# Altium schematic symbol library MF_MiscLib.schlib: 178 symbols (part 3 of 3)
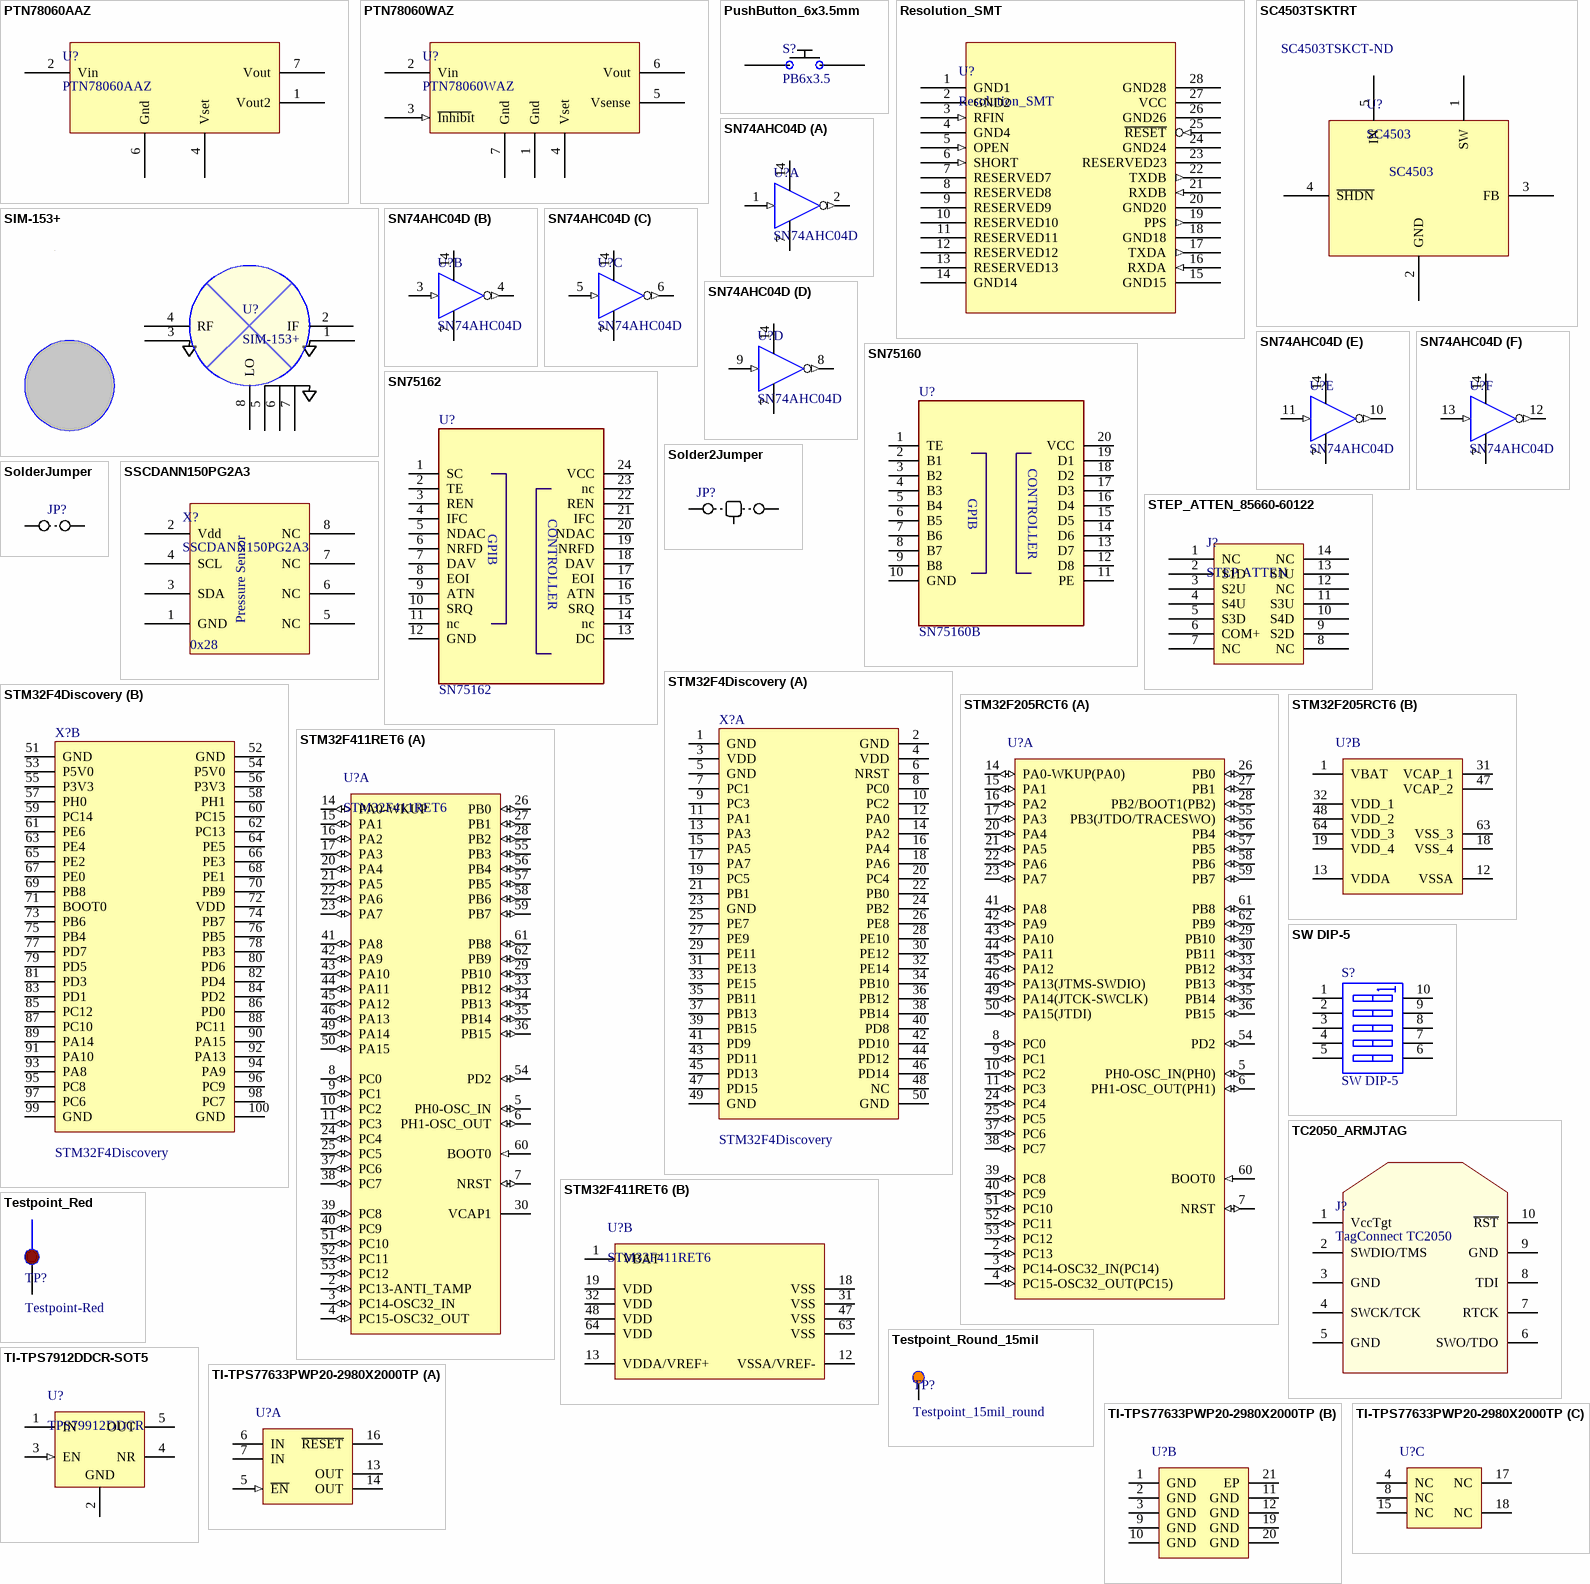
[diagram p11: symbols PTN78060AAZ to TI-TPS77633PWP20-2980X2000TP]

## SN74AHC04D
designator U?
Hex Inverter; Manufacturer: Texas Instruments; TPN: 156-5155-01; ComponentLink2Description: Datasheet; ComponentLink2URL: http://www-s.ti.com/sc/ds/sn74ahc04.pdf; ManufacturerPN: SN74AHC04D; Supplier 1: Digi-Key; Supplier Part Number 1: 296-4516-5-ND; Supplier 2: Newark; Supplier Part Number 2: 26M3213
3D model D014 (14-Pin Small Outline Integrated Circuit 1.27 mm Pitch)
signal-integrity model SN74AHC04D
footprint D014_L (SOIC, 14-Leads, Body 8.7x3.9mm, Pitch 1.27mm, IPC High Density)
footprint D014_M (SOIC, 14-Leads, Body 8.7x3.9mm, Pitch 1.27mm, IPC Low Density)
footprint D014_N (SOIC, 14-Leads, Body 8.7x3.9mm, Pitch 1.27mm, IPC Medium Density)
pins on every part: 7 GND (power), 14 VCC (power)
part A pins: 1 A (in), 2 Y (out)
part B pins: 3 A (in), 4 Y (out)
part C pins: 5 A (in), 6 Y (out)
part D pins: 8 Y (out), 9 A (in)
part E pins: 10 Y (out), 11 A (in)
part F pins: 12 Y (out), 13 A (in)

## SN75160
designator U?, comment SN75160B
Part Field 1: Octal Bus Transceiver; Part Field 2: TI  SN75160B-DW; Part Field 3: 296-6844-5
footprint SO20W
pins: 1 TE, 2 B1, 3 B2, 4 B3, 5 B4, 6 B5, 7 B6, 8 B7, 9 B8, 10 GND, 11 PE, 12 D8, 13 D7, 14 D6, 15 D5, 16 D4, 17 D3, 18 D2, 19 D1, 20 VCC
text: CONTROLLER; GPIB

## SN75162
designator U?
Part Field 1: Octal Bus Transceiver; Part Field 2: TI 75162B-DW; Part Field 3: 296-6848-5
footprint SO24W
pins: 1 SC, 2 TE, 3 REN, 4 IFC, 5 NDAC, 6 NRFD, 7 DAV, 8 EOI, 9 ATN, 10 SRQ, 11 nc, 12 GND, 13 DC, 14 nc, 15 SRQ, 16 ATN, 17 EOI, 18 DAV, 19 NRFD, 20 NDAC, 21 IFC, 22 REN, 23 nc, 24 VCC
text: CONTROLLER; GPIB

## Solder2Jumper
designator JP?, comment Solder Jumper  (value not drawn)  (no BOM)
Solder jumper 0402 size
footprint Solder2Jumper (Solder Jumper)
pins: 1 "pin1", 2 "pin2", 3

## SolderJumper
designator JP?, comment Solder Jumper  (value not drawn)  (no BOM)
Solder jumper 0402 size
footprint SolderJumper1 (Solder Jumper)
pins: 1 "pin1", 2 "pin2"

## SSCDANN150PG2A3
designator X?
SENSOR PRES 150PSI GAUG 3.3V DIP I2C; Manufacturer: Honeywell; ComponentLink1Description: Datasheet; ComponentLink1URL: http://sensing.honeywell.com/index.php?ci_id=151134; Supplier 1: Digi-Key; Supplier 2: Allied; Supplier Part Number 1: 480-5413-ND; Supplier Part Number 2: 70280311; ManufacturerPN: SSCDANN150PG2A3
footprint HoneywellPsenseDIP (Honeywell Pressure Sensor DIP AN package)
pins: 1 GND, 2 Vdd, 3 SDA, 4 SCL, 5 NC, 6 NC, 7 NC, 8 NC
text: Pressure Sensor; 0x28

## STEP_ATTEN_85660-60122
designator J?, comment STEP ATTEN  (no BOM)
footprint IC_Socket_2x7 (Header 2mm 14-pin thru hole)
pins: 1 NC, 2 S1D, 3 S2U, 4 S4U, 5 S3D, 6 COM+, 7 NC, 8 NC, 9 S2D, 10 S4D, 11 S3U, 12 NC, 13 S1U, 14 NC

## STM32F4Discovery
designator X?
STM32F4Discovery Board; Manufacturer: ST Microelectronics; Manufacturer PN: STM32F4DISCOVERY
footprint STM32F4Discovery (STM32F4Discovery Board)
part A pins: 1 GND, 2 GND, 3 VDD, 4 VDD, 5 GND, 6 NRST, 7 PC1, 8 PC0, 9 PC3, 10 PC2, 11 PA1, 12 PA0, 13 PA3, 14 PA2, 15 PA5, 16 PA4, 17 PA7, 18 PA6, 19 PC5, 20 PC4, 21 PB1, 22 PB0, 23 GND, 24 PB2, 25 PE7, 26 PE8, 27 PE9, 28 PE10, 29 PE11, 30 PE12, 31 PE13, 32 PE14, 33 PE15, 34 PB10, 35 PB11, 36 PB12, 37 PB13, 38 PB14, 39 PB15, 40 PD8, 41 PD9, 42 PD10, 43 PD11, 44 PD12, 45 PD13, 46 PD14, 47 PD15, 48 NC, 49 GND, 50 GND
part B pins: 51 GND, 52 GND, 53 P5V0, 54 P5V0, 55 P3V3, 56 P3V3, 57 PH0, 58 PH1, 59 PC14, 60 PC15, 61 PE6, 62 PC13, 63 PE4, 64 PE5, 65 PE2, 66 PE3, 67 PE0, 68 PE1, 69 PB8, 70 PB9, 71 BOOT0, 72 VDD, 73 PB6, 74 PB7, 75 PB4, 76 PB5, 77 PD7, 78 PB3, 79 PD5, 80 PD6, 81 PD3, 82 PD4, 83 PD1, 84 PD2, 85 PC12, 86 PD0, 87 PC10, 88 PC11, 89 PA14, 90 PA15, 91 PA10, 92 PA13, 93 PA8, 94 PA9, 95 PC8, 96 PC9, 97 PC6, 98 PC7, 99 GND, 100 GND
1 alternate drawing of the same symbol

## STM32F205RCT6
designator U?
ARM Cortex-M3 32-bit MCU, 256 KB Flash, 96 KB Internal RAM, 51 I/Os, 64-pin LQFP, -40 to 85 degC, Tray; PartNumber: STM32F205RCT6; D/A Converter: 2x12-bit (2 Channel); FLASH Size (Prog) (kB): 256; I/Os (High Current): 51; Internal RAM Size (kB): 96; Operating Frequency(F) (Processor speed) (MHz): 120; Supply Voltage(Vcc) min (V): 1.8; DatasheetVersion: Rev. 9; PackageVersion: Rev. 4, 06/2013; PackageReference: LQFP64; PackageDescription: 64-Pin Low Profile Quad Flat Package, 10 x 10 mm Body, 0.5 mm Pitch; Supplier 1: Digi-Key; Supplier Part Number 1: 497-11154-ND; Supplier 2: Farnell; Supplier Part Number 2: 2060896; Supplier 3: Newark; Supplier Part Number 3: 47T9328; Supplier 4: Mouser; Supplier Part Number 4: 511-STM32F205RCT6; Core: ARM Cortex-M3; Packing: Tray; Mounting Technology: Surface Mount; ComponentLink1Description: Manufacturer URL; ComponentLink1URL: http://www.st.com/web/en/home.html; ComponentLink2Description: Datasheet; ComponentLink2URL: http://www.st.com/st-web-ui/static/active/en/resource/technical/document/datasheet/CD00237391.pdf; ComponentLink3Description: Package Specification; ComponentLink3URL: http://www.st.com/st-web-ui/static/active/en/resource/technical/document/datasheet/DM00037051.pdf
footprint STM-LQFP64_N (Thin QFP, 64-Leads, Body 10x10mm, Pitch 0.5mm, IPC Medium Density)
footprint STM-LQFP64_L (Thin QFP, 64-Leads, Body 10x10mm, Pitch 0.5mm, IPC High Density)
footprint STM-LQFP64_M (Thin QFP, 64-Leads, Body 10x10mm, Pitch 0.5mm, IPC Low Density)
footprint STM-LQFP64_V (Thin QFP, 64-Leads, Body 10x10mm, Pitch 0.5mm, ST Recommended)
part A pins: 2 PC13 (io) "PC13/EVENTOUT/RTC_AF1", 3 PC14-OSC32_IN(PC14) (io) "PC14-OSC32_IN/PC14/EVENTOUT/OSC32_IN", 4 PC15-OSC32_OUT(PC15) (io) "PC15-OSC32_OUT/PC15/EVENTOUT/OSC32_OUT", 5 PH0-OSC_IN(PH0) (io) "PH0-OSC_IN(PH0)/PH0/EVENTOUT/OSC_IN", 6 PH1-OSC_OUT(PH1) (io) "PH1-OSC_OUT(PH1)/PH1/EVENTOUT/OSC_OUT", 7 NRST (io), 8 PC0 (io) "PC0/OTG_HS_ULPI_STP/EVENTOUT/ADC123_IN10", 9 PC1 (io) "PC1/ETH_MDC/EVENTOUT/ADC123_IN11", 10 PC2 (io) "PC2/SPI2_MISO/OTG_HS_ULPI_DIR/ETH_MII_TXD2/EVENTOUT/ADC123_IN12", 11 PC3 (io) "PC3/SPI2_MOSI/I2S2_SD/OTG_HS_ULPI_NXT/ETH_MII_TX_CLK/EVENTOUT/ADC123_IN13", 14 PA0-WKUP(PA0) (io) "PA0-WKUP(PA0)/USART2_CTS/UART4_TX/ETH_MII_CRS/TIM2_CH1_ETR/TIM5_CH1/TIM8_ETR/EVENTOUT/ADC123_IN0/WKUP", 15 PA1 (io) "PA1/USART2_RTS/UART4_RX/ETH_RMII_REF_CLK/ETH_MII_RX_CLK/TIM5_CH2/TIM2_CH2/EVENTOUT/ADC123_IN1", 16 PA2 (io) "PA2/USART2_TX/TIM5_CH3/TIM9_CH1/TIM2_CH3/ETH_MDIO/EVENTOUT/ADC123_IN2", 17 PA3 (io) "PA3/USART2_RX/TIM5_CH4/TIM9_CH2/TIM2_CH4/OTG_HS_ULPI_D0/ETH_MII_COL/EVENTOUT/ADC123_IN3", 20 PA4 (io) "PA4/SPI1_NSS/SPI3_NSS/USART2_CK/DCMI_HSYNC/OTG_HS_SOF/I2S3_WS/EVENTOUT/ADC12_IN4/DAC_OUT1", 21 PA5 (io) "PA5/SPI1_SCK/OTG_HS_ULPI_CK/TIM2_CH1_ETR/TIM8_CH1N/EVENTOUT/ADC12_IN5/DAC_OUT2", 22 PA6 (io) "PA6/SPI1_MISO/TIM8_BKIN/TIM13_CH1/DCMI_PIXCLK/TIM3_CH1/TIM1_BKIN/EVENTOUT/ADC12_IN6", 23 PA7 (io) "PA7/SPI1_MOSI/TIM8_CH1N/TIM14_CH1/TIM3_CH2/ETH_MII_RX_DV/TIM1_CH1N/RMII_CRS_DV/EVENTOUT/ADC12_IN7", 24 PC4 (io) "PC4/ETH_RMII_RX_D0/ETH_MII_RX_D0/EVENTOUT/ADC12_IN14", 25 PC5 (io) "PC5/ETH_RMII_RX_D1/ETH_MII_RX_D1/EVENTOUT/ADC12_IN15", 26 PB0 (io) "PB0/TIM3_CH3/TIM8_CH2N/OTG_HS_ULPI_D1/ETH_MII_RXD2/TIM1_CH2N/EVENTOUT/ADC12_IN8", 27 PB1 (io) "PB1/TIM3_CH4/TIM8_CH3N/OTG_HS_ULPI_D2/ETH_MII_RXD3/TIM1_CH3N/EVENTOUT/ADC12_IN9", 28 PB2/BOOT1(PB2) (io) "PB2/PB2-BOOT1/EVENTOUT", 29 PB10 (io) "PB10/SPI2_SCK/I2S2_SCK/I2C2_SCL/USART3_TX/OTG_HS_ULPI_D3/ETH_MII_RX_ER/TIM2_CH3/EVENTOUT", 30 PB11 (io) "PB11/I2C2_SDA/USART3_RX/OTG_HS_ULPI_D4/ETH_RMII_TX_EN/ETH_MII_TX_EN/TIM2_CH4/EVENTOUT", 33 PB12 (io) "PB12/SPI2_NSS/I2S2_WS/I2C2_SMBA/USART3_CK/TIM1_BKIN/CAN2_RX/OTG_HS_ULPI_D5/ETH_RMII_TXD0/ETH_MII_TXD0/OTG_HS_ID/EVENTOUT", 34 PB13 (io) "PB13/SPI2_SCK/I2S2_SCK/USART3_CTS/TIM1_CH1N/CAN2_TX/OTG_HS_ULPI_D6/ETH_RMII_TXD1/ETH_MII_TXD1/EVENTOUT/OTG_HS_VBUS", 35 PB14 (io) "PB14/SPI2_MISO/TIM1_CH2N/TIM12_CH1/OTG_HS_DM/USART3_RTS/TIM8_CH2N/EVENTOUT", 36 PB15 (io) "PB15/SPI2_MOSI/I2S2_SD/TIM1_CH3N/TIM8_CH3N/TIM12_CH2/OTG_HS_DP/RTC_50Hz/EVENTOUT", 37 PC6 (io) "PC6/I2S2_MCK/TIM8_CH1/SDIO_D6/USART6_TX/DCMI_D0/TIM3_CH1/EVENTOUT", 38 PC7 (io) "PC7/I2S3_MCK/TIM8_CH2/SDIO_D7/USART6_RX/DCMI_D1/TIM3_CH2/EVENTOUT", 39 PC8 (io) "PC8/TIM8_CH3/SDIO_D0/TIM3_CH3/USART6_CK/DCMI_D2/EVENTOUT", 40 PC9 (io) "PC9/I2S2_CKIN/I2S3_CKIN/MCO2/TIM8_CH4/SDIO_D1/I2C3_SDA/DCMI_D3/TIM3_CH4/EVENTOUT", 41 PA8 (io) "PA8/MCO1/USART1_CK/TIM1_CH1/I2C3_SCL/OTG_FS_SOF/EVENTOUT", 42 PA9 (io) "PA9/USART1_TX/TIM1_CH2/I2C3_SMBA/DCMI_D0/EVENTOUT/OTG_FS_VBUS", 43 PA10 (io) "PA10/USART1_RX/TIM1_CH3/OTG_FS_ID/DCMI_D1/EVENTOUT", 44 PA11 (io) "PA11/USART1_CTS/CAN1_RX/TIM1_CH4/OTG_FS_DM/EVENTOUT", 45 PA12 (io) "PA12/USART1_RTS/CAN1_TX/TIM1_ETR/OTG_FS_DP/EVENTOUT", 46 PA13(JTMS-SWDIO) (io) "PA13/JTMS-SWDIO/EVENTOUT", 49 PA14(JTCK-SWCLK) (io) "PA14/JTCK-SWCLK/EVENTOUT", 50 PA15(JTDI) (io) "PA15/JTDI/SPI3_NSS/I2S3_WS/TIM2_CH1_ETR/SPI1_NSS/EVENTOUT", 51 PC10 (io) "PC10/SPI3_SCK/I2S3_SCK/UART4_TX/SDIO_D2/DCMI_D8/USART3_TX/EVENTOUT", 52 PC11 (io) "PC11/UART4_RX/SPI3_MISO/SDIO_D3/DCMI_D4/USART3_RX/EVENTOUT", 53 PC12 (io) "PC12/UART5_TX/SDIO_CK/DCMI_D9/SPI3_MOSI/I2S3_SD/USART3_CK/EVENTOUT", 54 PD2 (io) "PD2/TIM3_ETR/UART5_RX/SDIO_CMD/DCMI_D11/EVENTOUT", 55 PB3(JTDO/TRACESWO) (io) "PB3/JTDO/TRACESWO/SPI3_SCK/I2S3_SCK/TIM2_CH2/SPI1_SCK/EVENTOUT", 56 PB4 (io) "PB4/NJTRST/SPI3_MISO/TIM3_CH1/SPI1_MISO/EVENTOUT", 57 PB5 (io) "PB5/I2C1_SMBA/CAN2_RX/OTG_HS_ULPI_D7/ETH_PPS_OUT/TIM3_CH2/SPI1_MOSI/SPI3_MOSI/DCMI_D10/I2S3_SD/EVENTOUT", 58 PB6 (io) "PB6/I2C1_SCL/TIM4_CH1/CAN2_TX/DCMI_D5/USART1_TX/EVENTOUT", 59 PB7 (io) "PB7/I2C1_SDA/FSMC_NL/DCMI_VSYNC/USART1_RX/TIM4_CH2/EVENTOUT", 60 BOOT0 (in) "BOOT0/VPP", 61 PB8 (io) "PB8/TIM4_CH3/SDIO_D4/TIM10_CH1/DCMI_D6/ETH_MII_TXD3/I2C1_SCL/CAN1_RX/EVENTOUT", 62 PB9 (io) "PB9/SPI2_NSS/I2S2_WS/TIM4_CH4/TIM11_CH1/SDIO_D5/DCMI_D7/I2C1_SDA/CAN1_TX/EVENTOUT"
part B pins: 1 VBAT (power), 12 VSSA (power), 13 VDDA (power), 18 VSS_4 (power), 19 VDD_4 (power), 31 VCAP_1 (power), 32 VDD_1 (power), 47 VCAP_2 (power), 48 VDD_2 (power), 63 VSS_3 (power), 64 VDD_3 (power)

## STM32F411RET6
designator U?
ARM Cortex-M4 32-bit MCU+FPU, 125 DMIPS, 512 kB Flash, 128 kB Internal RAM, 48 I/Os, 64-pin LQFP, -40 to 85 degC, Tray; Manufacturer: STMicroelectronics; FLASH Size (Prog) (kB): 512; Internal RAM Size (kB): 128; Supply Voltage(Vcc) max (V): 3.6; Supply Voltage(Vcc) min (V): 1.8; DatasheetVersion: Rev. 1; PackageVersion: Rev. 4, 06/2013; PackageReference: LQFP64; PackageDescription: 64-Pin Low Profile Quad Flat Package, 10 x 10 mm Body, 0.5 mm Pitch; Core: ARM Cortex-M4; Packing: Tray; Mounting Technology: Surface Mount; PartNumber: STM32F411RET6; ComponentLink1Description: Manufacturer URL; ComponentLink1URL: http://www.st.com; ComponentLink2Description: Datasheet; ComponentLink2URL: http://www.st.com/st-web-ui/static/active/en/resource/technical/document/datasheet/DM00115249.pdf; ComponentLink3Description: Package Specification; ComponentLink3URL: http://www.st.com/st-web-ui/static/active/en/resource/technical/document/datasheet/DM00037051.pdf; Supplier 1: Newark; Supplier 2: Digi-Key; Supplier Part Number 1: 31Y4738; Supplier Part Number 2: 497-14909-ND
footprint STM-LQFP64_N (Thin QFP, 64-Leads, Body 10x10mm, Pitch 0.5mm, IPC Medium Density)
footprint STM-LQFP64_L (Thin QFP, 64-Leads, Body 10x10mm, Pitch 0.5mm, IPC High Density)
footprint STM-LQFP64_M (Thin QFP, 64-Leads, Body 10x10mm, Pitch 0.5mm, IPC Low Density)
footprint STM-LQFP64_V (Thin QFP, 64-Leads, Body 10x10mm, Pitch 0.5mm, ST Recommended)
part A pins: 2 PC13-ANTI_TAMP (io) "PC13-ANTI_TAMP/TAMP_1", 3 PC14-OSC32_IN (io) "PC14-OSC32_IN/OSC32_IN", 4 PC15-OSC32_OUT (io) "PC15-OSC32_OUT/OSC32_OUT", 5 PH0-OSC_IN (io) "PH0-OSC_IN/OSC_IN", 6 PH1-OSC_OUT (io) "PH1-OSC_OUT/OSC_OUT", 7 NRST (io), 8 PC0 (io) "PC0/ADC1_10", 9 PC1 (io) "PC1/ADC1_11", 10 PC2 (io) "PC2/SPI2_MISO,I2S2ext_SD/ADC1_12", 11 PC3 (io) "PC3/SPI2_MOSI/I2S2_SD/ADC1_13", 14 PA0-WKUP (io) "PA0-WKUP/USART2_CTS,TIM2_CH1/TIM2_ETR,TIM5_CH1/ADC1_0,WKUP", 15 PA1 (io) "PA1/USART2_RTS,TIM2_CH2,TIM5_CH2/ADC1_1", 16 PA2 (io) "PA2/USART2_TX,TIM2_CH3,TIM5_CH3,TIM9_CH1/ADC1_2", 17 PA3 (io) "PA3/USART2_RX,TIM2_CH4,TIM5_CH4,TIM9_CH2/ADC1_3", 20 PA4 (io) "PA4/SPI1_NSS,SPI3_NSS/I2S3_WS,USART2_CK/ADC1_4", 21 PA5 (io) "PA5/SPI1_SCK,TIM2_CH1/TIM2_ETR/ADC1_5", 22 PA6 (io) "PA6/SPI1_MISO,TIM1_BKIN,TIM3_CH1/ADC1_6", 23 PA7 (io) "PA7/SPI1_MOSI,TIM1_CH1N,TIM3_CH2/ADC1_7", 24 PC4 (io) "PC4/ADC1_14", 25 PC5 (io) "PC5/ADC1_15", 26 PB0 (io) "PB0/TIM1_CH2N,TIM3_CH3/ADC1_8", 27 PB1 (io) "PB1/TIM1_CH3N,TIM3_CH4/ADC1_9", 28 PB2 (io), 29 PB10 (io) "PB10/SPI2_SCK/I2S2_CK,I2C2_SCL,TIM2_CH3", 30 VCAP1 (power), 33 PB12 (io) "PB12/SPI2_NSS/I2S2_WS,I2C2_SMBAL,TIM1_BKIN", 34 PB13 (io) "PB13/SPI2_SCK/I2S2_CK,TIM1_CH1N", 35 PB14 (io) "PB14/SPI2_MISO,I2S2ext_SD,TIM1_CH2N", 36 PB15 (io) "PB15/SPI2_MOSI/I2S2_SD,TIM1_CH3N,RTC_50Hz", 37 PC6 (io) "PC6/I2S2_MCK,USART6_TX,TIM3_CH1,SDIO_D6", 38 PC7 (io) "PC7/I2S3_MCK,USART6_RX,TIM3_CH2,SDIO_D7", 39 PC8 (io) "PC8/USART6_CK,TIM3_CH3,SDIO_D0", 40 PC9 (io) "PC9/I2S2_CKIN,I2C3_SDA,TIM3_CH4,SDIO_D1,MCO_2", 41 PA8 (io) "PA8/I2C3_SCL,USART1_CK,TIM1_CH1,USB_FS_SOF,MCO_1", 42 PA9 (io) "PA9/I2C3_SMBAL,USART1_TX,TIM1_CH2,USB_FS_VBUS", 43 PA10 (io) "PA10/USART1_RX,TIM1_CH3,USB_FS_ID", 44 PA11 (io) "PA11/USART1_CTS,USART6_TX,TIM1_CH4,USB_FS_DM", 45 PA12 (io) "PA12/USART1_RTS,USART6_RX,TIM1_ETR,USB_FS_DP", 46 PA13 (io) "PA13/JTMS-SWDIO", 49 PA14 (io) "PA14/JTCK-SWCLK", 50 PA15 (io) "PA15/SPI1_NSS,SPI3_NSS/I2S3_WS,TIM2_CH1/TIM2_ETR,JTDI", 51 PC10 (io) "PC10/SPI3_SCK/I2S3_CK,SDIO_D2", 52 PC11 (io) "PC11/I2S3ext_SD,SPI3_MISO,SDIO_D3", 53 PC12 (io) "PC12/SPI3_MOSI/I2S3_SD,SDIO_CK", 54 PD2 (io) "PD2/TIM3_ETR,SDIO_CMD", 55 PB3 (io) "PB3/SPI1_SCK,SPI3_SCK/I2S3_CK,I2C2_SDA,TIM2_CH2,JTDO-SWO", 56 PB4 (io) "PB4/SPI1_MISO,SPI3_MISO,I2S3ext_SD,I2C3_SDA,TIM3_CH1,JTRST", 57 PB5 (io) "PB5/SPI1_MOSI,SPI3_MOSI/I2S3_SD,I2C1_SMBAL,TIM3_CH2", 58 PB6 (io) "PB6/I2C1_SCL,USART1_TX,TIM4_CH1", 59 PB7 (io) "PB7/I2C1_SDA,USART1_RX,TIM4_CH2", 60 BOOT0 (in), 61 PB8 (io) "PB8/I2C1_SCL,TIM4_CH3,TIM10_CH1,SDIO_D4", 62 PB9 (io) "PB9/SPI2_NSS/I2S2_WS,I2C1_SDA,TIM4_CH4,TIM11_CH1,SDIO_D5"
part B pins: 1 VBAT (power), 12 VSSA/VREF- (power), 13 VDDA/VREF+ (power), 18 VSS (power), 19 VDD (power), 31 VSS (power), 32 VDD (power), 47 VSS (power), 48 VDD (power), 63 VSS (power), 64 VDD (power)

## SW DIP-5
designator S?
DIP Switch
footprint DIP10
pins: 1 A1, 2 A2, 3 A3, 4 A4, 5 A5, 6 B5, 7 B4, 8 B3, 9 B2, 10 B1

## TC2050_ARMJTAG
designator J?, comment TagConnect TC2050  (no BOM)
TagConnect TC2050-IDC For ARM JTAG; Manufacturer: Tag-Connect LLC; Manufacturer PN: TC2050-IDC; ComponentLink1Description: Datasheet; ComponentLink1URL: http://www.tag-connect.com/Materials/TC2050-IDC%20Datasheet.pdf
footprint TC2050-IDC
pins: 1 VccTgt, 2 SWDIO/TMS, 3 GND, 4 SWCK/TCK, 5 GND, 6 SWO/TDO, 7 RTCK, 8 TDI, 9 GND, 10 ~{RST}

## Testpoint_Red
designator TP?, comment Testpoint-Red
Testpoint, Thru hole red; Manufacturer: Keystone Electronics; Manufacturer PN: 5000; ComponentLink1Description: Datasheet; ComponentLink1URL: http://www.keyelco.com/pdfs/M60/M60p60.pdfhttp://www.keyelco.com/pdfs/M60/M60p60.pdfhttp://www.keyelco.com/pdfs/M60/M60p60.pdfhttp://www.keyelco.com/pdfs/M60/M60p60.pdf; Supplier 1: Digi-Key; Supplier Part Number 1: 5000K-ND
footprint TP_5000 (Testpoint 40mil hole, Keystone 5000)
pins: 1

## Testpoint_Round_15mil
designator TP?, comment Testpoint_15mil_round  (no BOM)
Testpoint, 15mil round
footprint TP_15mil_round (Testpoint 15 mil round)
pins: 1

## TI-TPS7912DDCR-SOT5
designator U?, comment TPS79912DDCR
IC REG LDO 1.2V 0.2A SOT5; Manufacturer: Texas Instruments; Manufacturer PN: TPS79912DDCR; ComponentLink1Description: Datasheet; ComponentLink1URL: http://www.ti.com/lit/ds/symlink/tps79913.pdf; Supplier 1: Mouser; Supplier Part Number 1: 595-TPS79912DDCR; Supplier 2: Digi-Key; Supplier Part Number 2: 296-21939-1-ND; Supplier 3: Arrow; Supplier Part Number 3: 43014281S9573352N7713
footprint TI-DDC5_M (SOT23, 5-Leads, Body 2.9x1.6mm, Pitch 0.95mm, IPC Low Density)
pins: 1 IN (power) "Input supply.", 2 GND (power) "Ground.", 3 EN (in) "Driving the enable pin (EN) high turns on the regulator .Driving this pin low puts the regulator into shutdown mode.EN can be connected to IN if not used.", 4 NR "Fixed voltage versions only; connecting an external capacitor to this pin bypasses noise generated by the internal bandgap. This capacitor allows output noise to be reduced to very low levels.", 5 OUT (power) "Output for the regulator. A small capacitor (total typical capacitance >= 2.0uF ceramic) is needed from this pin to ground to assure stability."

## TI-TPS77633PWP20-2980X2000TP
designator U?
IC REG LDO 3.3V 0.5A 20HTSSOP; Manufacturer: Texas Instruments; Manufacturer PN: TPS77633QPWPRQ1; ComponentLink1Description: Datasheet; ComponentLink1URL: http://www.ti.com/lit/ds/symlink/tps77501-q1.pdf; Supplier 1: Mouser; Supplier Part Number 1: 595-TPS77633QPWPREP; Supplier 2: Digi-Key; Supplier Part Number 2: 296-15301-1-ND; Supplier 3: Arrow; Supplier Part Number 3: 38811579S8443705N7713
footprint TI-PWP20-2980X2000TP_M (SOP, 20-Leads, Body 6.5x4.4mm, Pitch 0.65mm, Thermal Pad 2.975x2 mm, IPC Low Density)
part A pins: 5 ~{EN} (in) "Negative polarity enable (E\N\) input", 6 IN (power) "Input voltage", 7 IN (power) "Input voltage", 13 OUT (power) "Regulated output voltage", 14 OUT (power) "Regulated output voltage", 16 ~{RESET} (hiz) "open-drain R\E\S\E\T\ output."
part B pins: 1 GND (power) "Ground", 2 GND (power) "Ground", 3 GND (power) "Ground", 9 GND (power) "Ground", 10 GND (power) "Ground", 11 GND (power) "Ground", 12 GND (power) "Ground", 19 GND (power) "Ground", 20 GND (power) "Ground", 21 EP (power) "Should be soldered to ground plane and used for heat sinking."
part C pins: 4 NC "No internal connection", 8 NC "No internal connection", 15 NC "No internal connection", 17 NC "No internal connection", 18 NC "No internal connection"

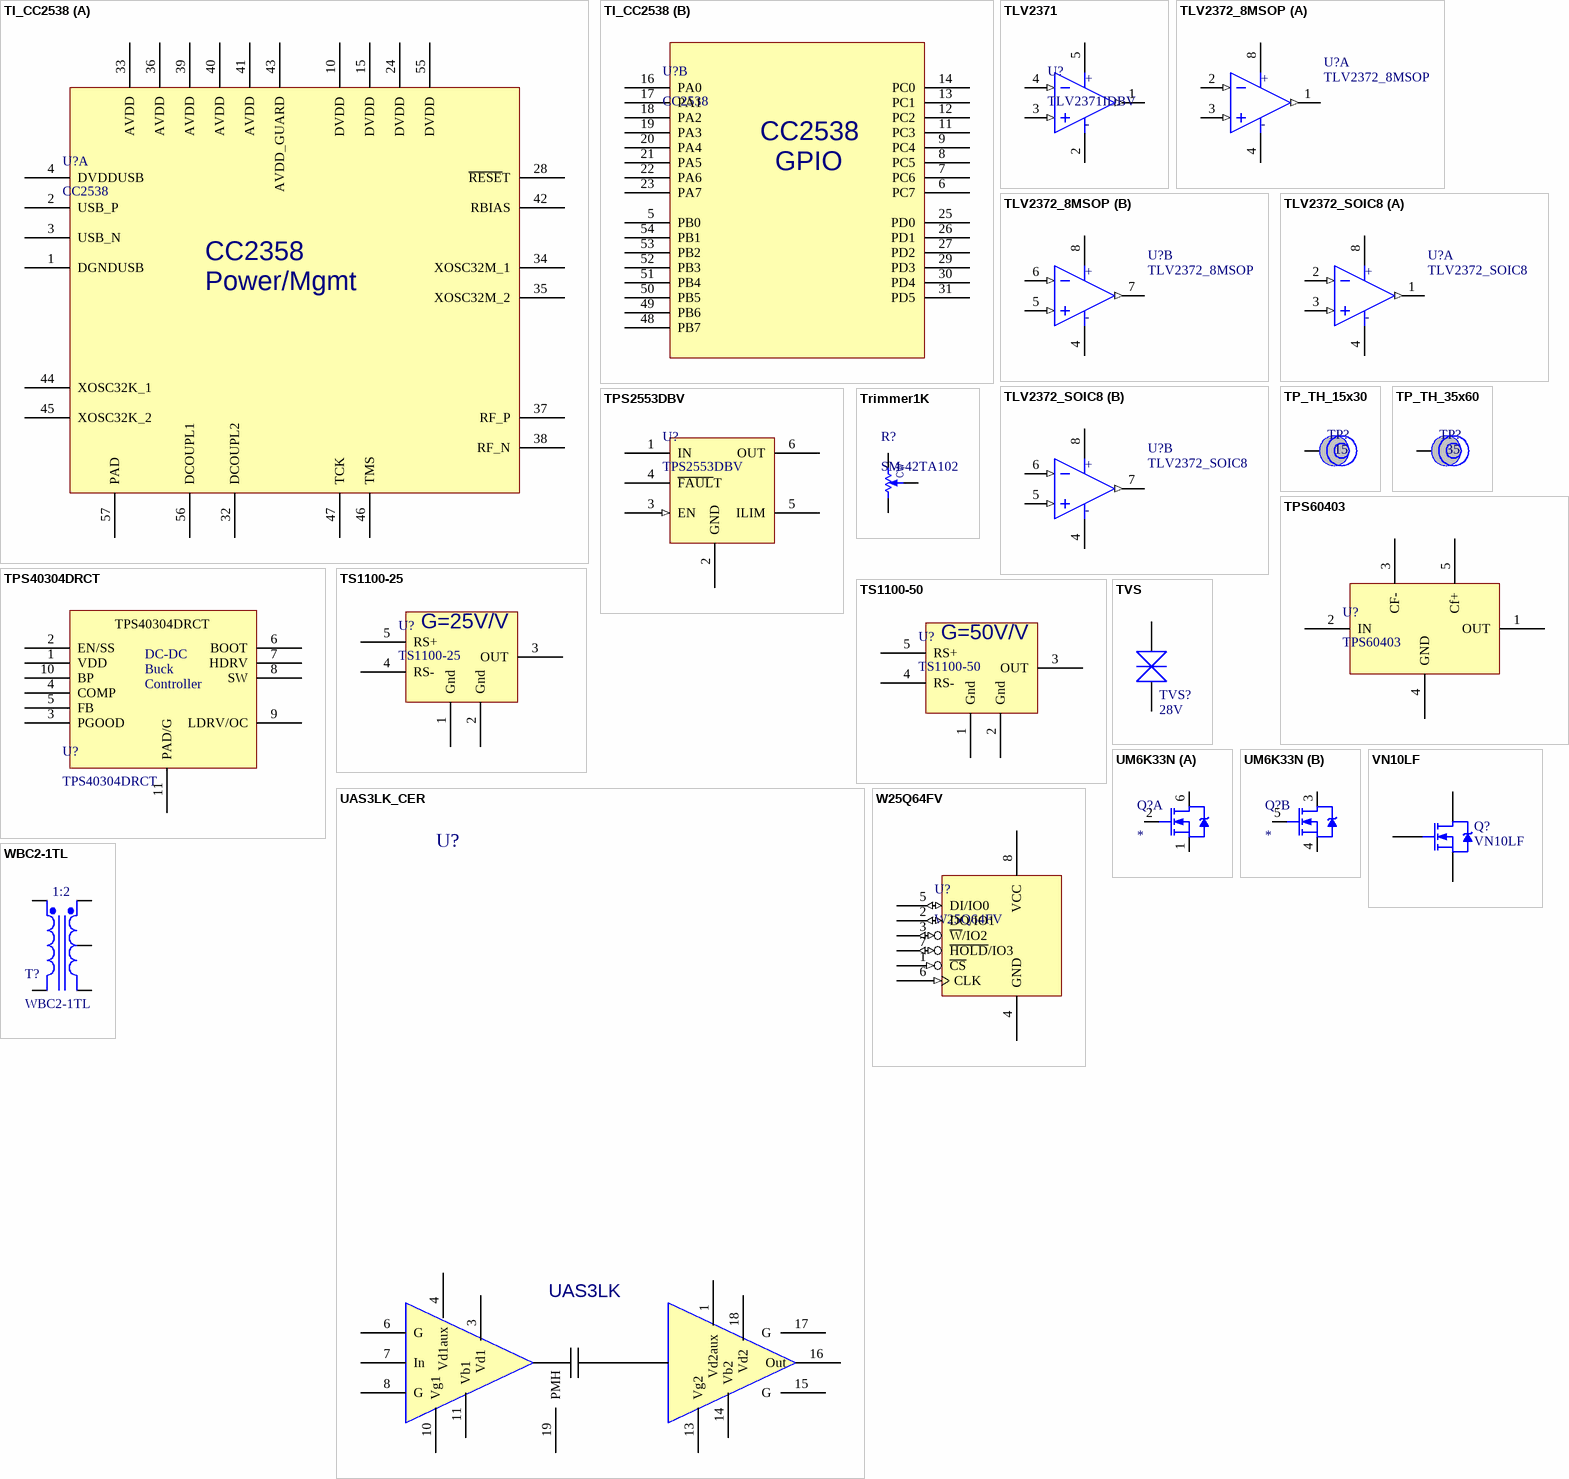
[diagram p9: symbols TI_CC2538 to WBC2-1TL]

## TI_CC2538
designator U?, comment CC2538
CortexM3 Zigbee 802.15 SOC; Manufacturer: Texas Instruments; Manufacturer PN: CC2538SF53RTQT; ComponentLink1Description: Datasheet; ComponentLink1URL: http://www.ti.com/lit/ds/symlink/cc2538.pdf; Supplier 1: Digi-Key; Supplier Part Number 1: 296-35797-6-ND
footprint RTQ56_6P7X6P7
part A pins: 1 DGNDUSB, 2 USB_P, 3 USB_N, 4 DVDDUSB, 10 DVDD, 15 DVDD, 24 DVDD, 28 ~{RESE}T, 32 DCOUPL2, 33 AVDD, 34 XOSC32M_1, 35 XOSC32M_2, 36 AVDD, 37 RF_P, 38 RF_N, 39 AVDD, 40 AVDD, 41 AVDD, 42 RBIAS, 43 AVDD_GUARD, 44 XOSC32K_1, 45 XOSC32K_2, 46 TMS, 47 TCK, 55 DVDD, 56 DCOUPL1, 57 PAD
part B pins: 5 PB0, 6 PC7, 7 PC6, 8 PC5, 9 PC4, 11 PC3, 12 PC2, 13 PC1, 14 PC0, 16 PA0, 17 PA1, 18 PA2, 19 PA3, 20 PA4, 21 PA5, 22 PA6, 23 PA7, 25 PD0, 26 PD1, 27 PD2, 29 PD3, 30 PD4, 31 PD5, 48 PB7, 49 PB6, 50 PB5, 51 PB4, 52 PB3, 53 PB2, 54 PB1
part A text: CC2358; Power/Mgmt
part B text: GPIO

## TLV2371
designator U?, comment TLV2371IDBV
OpAmp RRIO 3MHz GBW 500uA supply SOT23-5; Manufacturer: Texas Instruments; Manufacturer PN: TL2371IDBVR; ComponentLink1Description: Datasheet; ComponentLink1URL: http://www.ti.com/lit/ds/symlink/tlv2370.pdf; Supplier 1: Newark; Supplier Part Number 1: 76C7969; Supplier 2: Mouser; Supplier Part Number 2: 595-TLV2371IDBVR; Supplier 3: Digi-Key; Supplier Part Number 3: 296-13057-1-ND; Supplier 4: Arrow; Supplier Part Number 4: 4912948S7269856N7713
footprint SOT95P245X145-5N (SOT23, 5-Leads, Body 3.0x2.6mm (max), Pitch 0.95mm, IPC Medium Density)
pins: 1 OUT (out), 2 V- (power), 3 IN+ (in), 4 IN- (in), 5 V+ (power)
text: +; -

## TLV2372_8MSOP
designator U?
Op Amp, Dual, RRIO 3MHz GBW 550uA/ch 8-MSOP; Manufacturer: Texas Instruments; Manufacturer PN: TLV2372IDGKR; ComponentLink1Description: Datasheet; ComponentLink1URL: http://www.ti.com/lit/ds/symlink/tlv2370.pdf; Supplier 1: Digi-Key; Supplier Part Number 1: 296-26786-5-ND; Supplier 2: Newark; Supplier Part Number 2: 76C7974; Supplier 3: Mouser; Supplier Part Number 3: 595-TLV2372IDGK; Supplier 4: Arrow; Supplier Part Number 4: 2781519S7583882N7713
footprint RM-8_MSOP-8
part A pins: 1 OUTA (out), 2 INA- (in), 3 INA+ (in), 4 V- (power), 8 V+ (power)
part B pins: 4 V- (power), 5 INB+ (in), 6 INB- (in), 7 OUTB (out), 8 V+ (power)
part A text: +; -
part B text: +; -

## TLV2372_SOIC8
designator U?
Op Amp, Dual, RRIO 3MHz GBW 550uA/ch SOIC-8; Manufacturer: Texas Instruments; Manufacturer PN: TLV2372IDR; ComponentLink1Description: Datasheet; ComponentLink1URL: http://www.ti.com/lit/ds/symlink/tlv2370.pdf; Supplier 1: Digi-Key; Supplier Part Number 1: 296-10528-6-ND; Supplier 2: Arrow; Supplier Part Number 2: 2781518S7269752N7713; Supplier 3: Mouser; Supplier Part Number 3: 595-TLV2372IDR; Supplier 4: Newark; Supplier Part Number 4: 76C7975
footprint R-8_M (8-Pin Narrow Body Small Outline Integrated Circuit 1.27 mm Pitch, IPC Low Density)
part A pins: 1 OUTA (out), 2 INA- (in), 3 INA+ (in), 4 V- (power), 8 V+ (power)
part B pins: 4 V- (power), 5 INB+ (in), 6 INB- (in), 7 OUTB (out), 8 V+ (power)
part A text: +; -
part B text: +; -

## TP_TH_15x30
designator TP?  (value not drawn)  (no BOM)
Pad 15mil hole, 30mil copper
footprint PAD15x30 (15 mil via with 30 mil pad)
pins: 1
text: 15

## TP_TH_35x60
designator TP?  (value not drawn)  (no BOM)
Pad 35mil hole, 60mil copper
footprint PAD35x60 (35mil Via with 60 mil pad)
pins: 1
text: 35

## TPS2553DBV
designator U?
IC PWR DIST SWITCH ADJ SOT23-6; Manufacturer: Texas Instruments; Manufacturer PN: TPS2553DBVR; ComponentLink1Description: Datasheet; ComponentLink1URL: http://www.ti.com/lit/ds/symlink/tps2552.pdf; Supplier 1: Digi-Key; Supplier Part Number 1: 296-32464-6-ND; Supplier 2: Digi-Key; Supplier Part Number 2: 296-32464-1-ND; Supplier 3: Mouser; Supplier Part Number 3: 595-TPS2553DBVR; Supplier 4: Arrow; Supplier Part Number 4: 47487681S8295283N7713
footprint SOT95P275X110-6N (SOT23, 6-Leads, Body 3.1x3.0mm (max), Pitch 0.95mm, IPC Medium Density)
pins: 1 IN, 2 GND (power), 3 EN (in), 4 ~{FAUL}T, 5 ILIM, 6 OUT

## TPS40304DRCT
designator U?
DC-DC Buck Regulator Controller; Supplier 1: Digi-Key; Supplier Part Number 1: 296-25486-1-ND
footprint TPS4030X (QFN, 14-Leads, Body 3.1x3.1mm (max), Pitch 0.50mm, IPC Medium Density)
pins: 1 VDD, 2 EN/SS (power), 3 PGOOD, 4 COMP, 5 FB, 6 BOOT, 7 HDRV, 8 SW, 9 LDRV/OC, 10 BP, 11 PAD/G (power)
text: DC-DC; Buck; Controller

## TPS60403
designator U?
DC-DC CHARGE PUMP INVERTING SOT23-5  60MA MAX; Manufacturer: Texas Instruments; Manufacturer PN: TPS60403DBVR; ComponentLink1Description: Datasheet; ComponentLink1URL: http://www.ti.com/lit/ds/symlink/tps60400.pdf; Supplier 1: Mouser; Supplier Part Number 1: 595-TPS60403DBVR; Supplier 2: Mouser; Supplier Part Number 2: 595-TPS60403DBVRG4; Supplier 3: Digi-Key; Supplier Part Number 3: 296-27005-1-ND
footprint SOT95P245X145-5N (SOT23, 5-Leads, Body 3.0x2.6mm (max), Pitch 0.95mm, IPC Medium Density)
pins: 1 OUT, 2 IN, 3 CF-, 4 GND, 5 Cf+

## Trimmer1K
designator R?, comment SM-42TA102
Trimpot 1K 11-turn Side 4mm SMD; Manufacturer: Copal Electronics; ComponentLink1Description: Datasheet; ComponentLink1URL: http://copal-electronics.info/en/00011/00ca4.pdf; Supplier 1: Digi-Key; Supplier Part Number 1: SM-42TA102DKR-ND; Manufacturer PN: SM-42TA102
footprint RES_POT_4MM_SQ_RA
pins: 1 CCW, 2 W, 3 CW

## TS1100-25
designator U?
Precision current sense amplifier SOT23-5 Gain=25V/V +2V-+25V; Manufacturer: Touchstone Semiconductor; Manufacturer PN: TS1100-25EG5T; ComponentLink1Description: Datasheet; ComponentLink1URL: http://touchstonesemi.com/wp-content/uploads/2012/07/ts1100ds%20r1p0%20-%20nov%2011.pdf; Supplier 1: Digi-Key; Supplier Part Number 1: TS1100-25EG5TDKR-ND
footprint SOT95P245X145-5N (SOT23, 5-Leads, Body 3.0x2.6mm (max), Pitch 0.95mm, IPC Medium Density)
pins: 1 Gnd, 2 Gnd, 3 OUT, 4 RS-, 5 RS+
text: G=25V/V

## TS1100-50
designator U?
Precision current sense amplifier SOT23-5 Gain=50V/V +2V-+25V; Manufacturer: Touchstone Semiconductor; Manufacturer PN: TS1100-50EG5T; ComponentLink1Description: Datasheet; ComponentLink1URL: http://touchstonesemi.com/wp-content/uploads/2012/07/ts1100ds%20r1p0%20-%20nov%2011.pdf; Supplier 1: Digi-Key; Supplier Part Number 1: TS1100-50EG5TCT-ND
footprint SOT95P245X145-5N (SOT23, 5-Leads, Body 3.0x2.6mm (max), Pitch 0.95mm, IPC Medium Density)
pins: 1 Gnd, 2 Gnd, 3 OUT, 4 RS-, 5 RS+
text: G=50V/V

## TVS
designator TVS?, comment 28V
SMAJ28CA-13; Part Field 1: TVS, bi-directional, 28V, 400w; Manufacturer: Diodes Inc; Part Field 2: Diodes Inc.  SMAJ28CA-13; Part Field 3: SMAJ28CADICT; Manufacturer PN: SMAJ28CA-13; Supplier 1: Digi-Key; Supplier Part Number 1: SMAJ28CA-FDICT-ND
footprint SMAJ
pins: 1, 2

## UAS3LK_CER
designator U?, comment UAS3LK  (value not drawn)
Centellax UAS3LK Dual DA7 amplifier; GEOMETRY.HEIGHT: 40; TPN: 167-2559-00; Manufacturer PN: UAS3LK; Manufacturer: Centellax
footprint 7X7MM_SMT
pins: 1 Vd2aux, 3 Vd1, 4 Vd1aux, 6 G, 7 In, 8 G, 10 Vg1, 11 Vb1, 13 Vg2, 14 Vb2, 15 G, 16 Out, 17 G, 18 Vd2, 19 PMH

## UM6K33N
designator Q?
MOSFET 2xN-CH 50V 0.2A UMT6 Logic drive; Manufacturer: Rohm Semiconductor; Manufacturer PN: UM6K33NTN; ComponentLink1Description: Datasheet; ComponentLink1URL: http://rohmfs.rohm.com/en/products/databook/datasheet/discrete/transistor/mosfet/um6k33n.pdf; Supplier 1: Digi-Key; Supplier Part Number 1: UM6K33NTNDKR-ND
footprint SOT363-6 (SOT363, 6-Leads, Body 2.2x1.4mm (max), Pitch 0.65mm, IPC Medium Density)
part A pins: 1 S1, 2 G1, 6 D1
part B pins: 3 D2, 4 S2, 5 G2

## VN10LF
designator Q?
MOSFET N-CH 60V 150MA SOT23-3; Manufacturer: Diodes Inc; Manufacturer PN: VN10LFTA; ComponentLink1Description: Datasheet; ComponentLink1URL: http://media.digikey.com/pdf/Data%20Sheets/Zetex%20PDFs/VN10LF.PDF; Supplier 1: Mouser; Supplier Part Number 1: 522-VN10LFTA; Supplier 2: Digi-Key; Supplier Part Number 2: VN10LFCT-ND; Supplier 3: Arrow; Supplier Part Number 3: 46966122S8017385N2867; Supplier 4: Newark; Supplier Part Number 4: 98K2374
footprint SOT23
pins: 1 G, 2 D, 3 S

## W25Q64FV
designator U?
Memory Flash 64Mbit SPI SOIC8; Manufacturer: Winbond; Manufacturer PN: W25Q64FVSSIG; ComponentLink1Description: Datasheet; ComponentLink1URL: http://media.digikey.com/pdf/Data%20Sheets/Winbond%20PDFs/W25Q64FV.pdf; Supplier 1: Digi-Key; Supplier Part Number 1: W25Q64FVSSIG-ND
footprint SOP8_208mil
pins: 1 ~{CS} (in), 2 DO/IO1 (io), 3 ~{W}/IO2 (io), 4 GND (power), 5 DI/IO0 (io), 6 CLK (in), 7 ~{HOLD}/IO3 (io), 8 VCC (power)

## WBC2-1TL
designator T?
Wide-band 1:2CT Transformer .2-500MHz; Manufacturer: Coilcraft; Manufacturer PN: WBC2-1TLB
footprint COILCRAFT_WBC (COILCRAFT WBC SMT TRANSFORMER)
pins: 1 Sec+, 2 SecCT, 3 Sec-, 4 Pri-, 6 Pri+
text: 1:2